# Altium footprint library SamacSys.PcbLib: 53 footprints (part 3 of 4)
Each footprint in its own frame and in the unit in brackets; x right, y up, seen from the top. Pads: shape width x height; smd on the part's side, far side on the other; paste and mask are expansions set on the pad; w line width, h text height; cw(c..) or ccw(c..) is an arc to the next point about the centre after c.
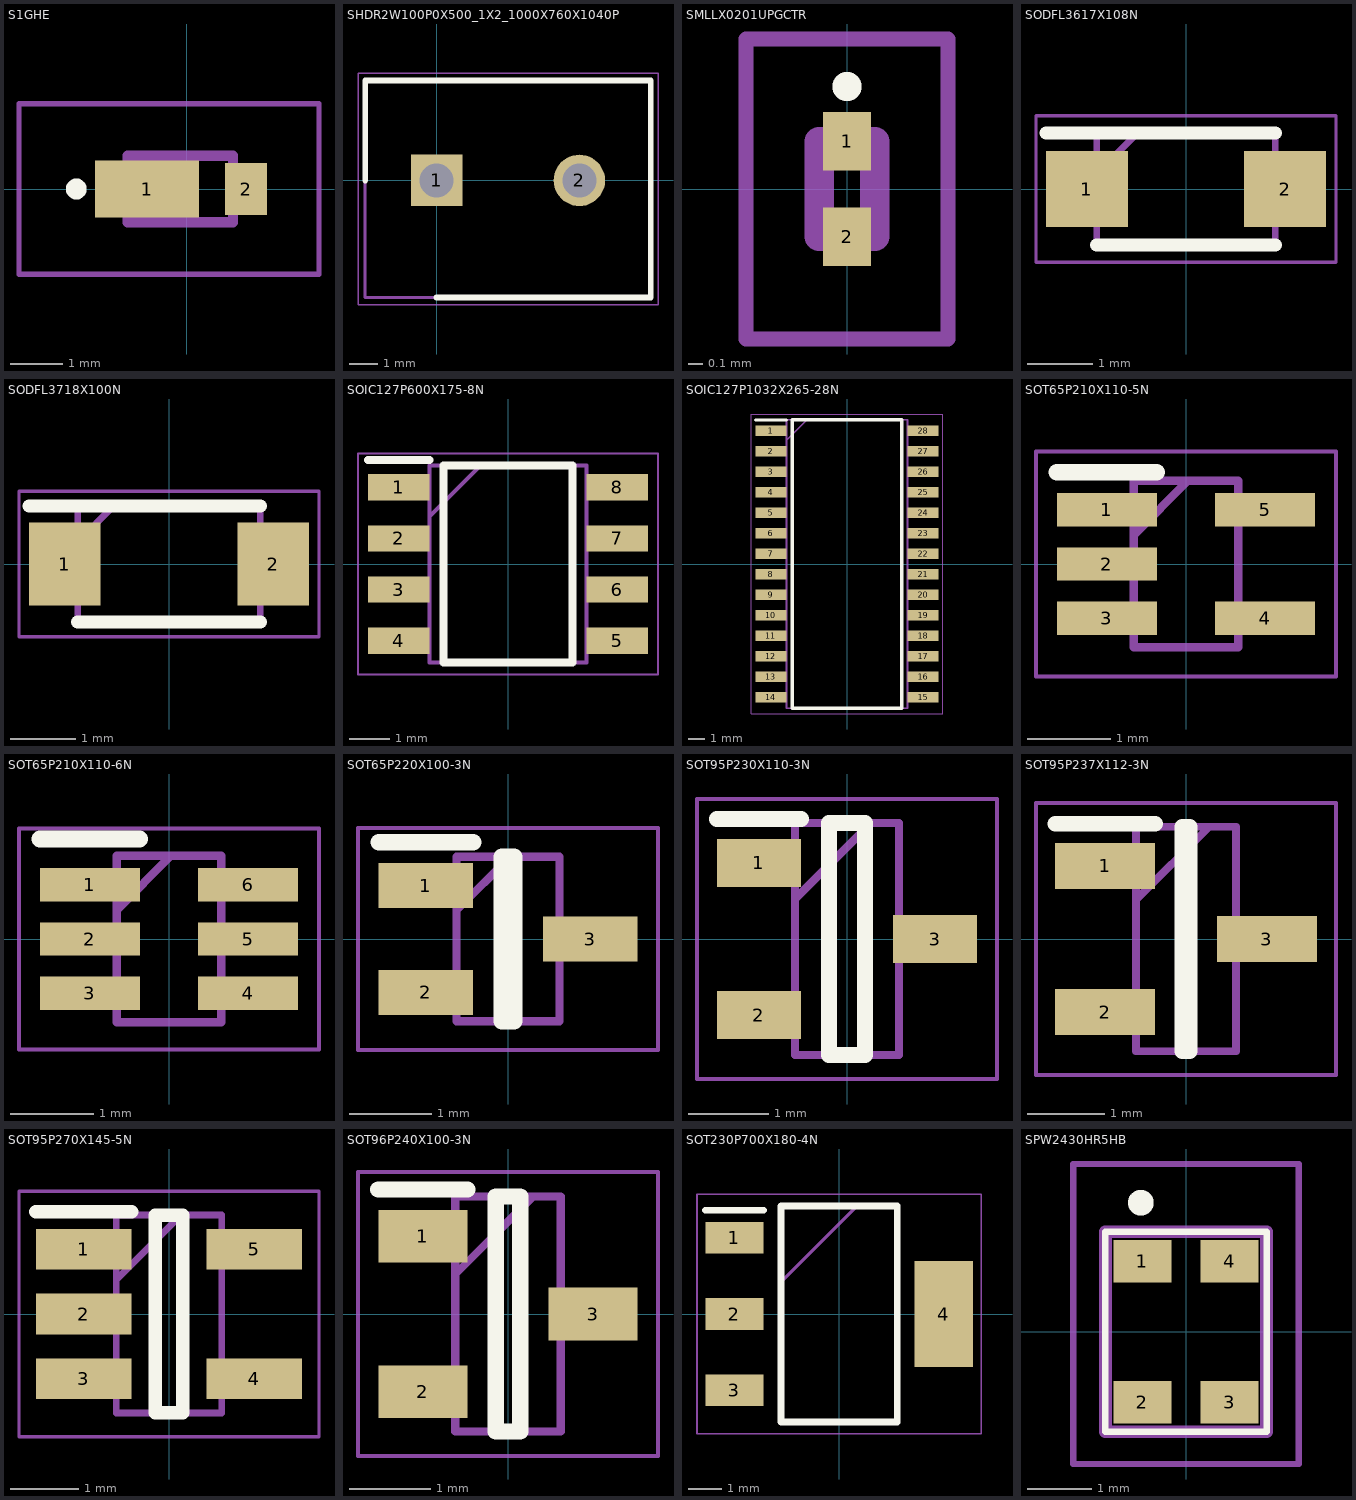
[diagram p2: the footprints below, top view; thin cyan lines are the x and y axes]

## S1GHE [mm]
pads (2):
  rect 2x1.1 smd: 1(-0.763,0)
  rect 0.8x1 smd: 2(1.138,0)
Top Overlay:
  lines w0.2: -2.22,0 cw(c-2.12,0) -2.02,0 cw(c-2.12,0) -2.22,0
Mechanical 13:
  lines w0.2: -1.138,-0.638 -1.138,0.638 0.888,0.638 0.888,-0.638 -1.138,-0.638
Mechanical 15:
  lines w0.1: -3.22,-1.638 -3.22,1.638 2.538,1.638 2.538,-1.638 -3.22,-1.638
3D body "S1GHE.stp": height 0.85, standoff 0, extent -1.653,-0.638 1.458,0.638

## SHDR2W100P0X500_1X2_1000X760X1040P [mm]
pads (2):
  rect 1.8x1.8 hole 1.2: 1(0,0)
  round 1.8 hole 1.2: 2(5,0)
Top Overlay:
  lines w0.2: -2.5,0 -2.5,3.5 7.5,3.5 7.5,-4.1 0,-4.1
Mechanical 13:
  lines w0.1: -2.5,-4.1 -2.5,3.5 7.5,3.5 7.5,-4.1 -2.5,-4.1
Mechanical 15:
  lines w0.05: -2.75,-4.35 -2.75,3.75 7.75,3.75 7.75,-4.35 -2.75,-4.35

## SMLLX0201UPGCTR [mm]
pads (2):
  rect 0.33x0.4 smd: 1(0,0.325) 2(0,-0.325)
Top Overlay:
  lines w0.1: -0.05,0.7 ccw(c0,0.7) 0.05,0.7 ccw(c0,0.7) -0.05,0.7
Mechanical 13:
  lines w0.2: -0.19,-0.325 0.19,-0.325 0.19,0.325 -0.19,0.325 -0.19,-0.325
Mechanical 15:
  lines w0.1: -0.69,-1.025 0.69,-1.025 0.69,1.025 -0.69,1.025 -0.69,-1.025
3D body "SML-LX0201UPGC-TR.stp": height 0.56, standoff 0, extent -0.19,-0.325 0.19,0.325

## SODFL3617X108N [mm]
pads (2):
  rect 1.26x1.17 smd: 1(-1.525,0) 2(1.525,0)
Top Overlay:
  lines w0.2: -2.155,0.862 1.375,0.862 ; -1.375,-0.862 1.375,-0.862
Mechanical 13:
  lines w0.1: -1.375,0.232 -0.745,0.862 ; -1.375,-0.862 1.375,-0.862 1.375,0.862 -1.375,0.862 -1.375,-0.862
Mechanical 15:
  lines w0.05: -2.305,-1.125 2.305,-1.125 2.305,1.125 -2.305,1.125 -2.305,-1.125
3D body "SS24FL.stp": height 1.08, standoff 0, extent -1.8,-0.863 1.8,0.863

## SODFL3718X100N [mm]
pads (2):
  rect 1.1x1.27 smd: 1(-1.6,0) 2(1.6,0)
Top Overlay:
  lines w0.2: -2.15,0.89 1.4,0.89 ; -1.4,-0.89 1.4,-0.89
Mechanical 13:
  lines w0.1: -1.4,0.34 -0.85,0.89 ; -1.4,-0.89 -1.4,0.89 1.4,0.89 1.4,-0.89 -1.4,-0.89
Mechanical 15:
  lines w0.05: -2.3,-1.115 -2.3,1.115 2.3,1.115 2.3,-1.115 -2.3,-1.115
3D body "SBR3U40P1-7.stp": height 1, standoff 0, extent -1.85,-0.89 1.85,0.89

## SOIC127P600X175-8N [mm]
pads (8):
  rect 1.525x0.65 smd: 1(-2.712,1.905) 2(-2.712,0.635) 3(-2.712,-0.635) 4(-2.712,-1.905) 5(2.712,-1.905) 6(2.712,-0.635) 7(2.712,0.635) 8(2.712,1.905)
Top Overlay:
  lines w0.2: -3.475,2.58 -1.95,2.58 ; -1.6,-2.45 -1.6,2.45 1.6,2.45 1.6,-2.45 -1.6,-2.45
Mechanical 13:
  lines w0.1: -1.95,1.18 -0.68,2.45 ; -1.95,-2.45 -1.95,2.45 1.95,2.45 1.95,-2.45 -1.95,-2.45
Mechanical 15:
  lines w0.05: -3.725,-2.75 -3.725,2.75 3.725,2.75 3.725,-2.75 -3.725,-2.75
3D body "NE555DR.stp": height 1.75, standoff 0, extent -3,-2.45 3,2.45

## SOIC127P1032X265-28N [mm]
pads (28):
  rect 1.925x0.65 smd: 1(-4.712,8.255) 2(-4.712,6.985) 3(-4.712,5.715) 4(-4.712,4.445) 5(-4.712,3.175) 6(-4.712,1.905) 7(-4.712,0.635) 8(-4.712,-0.635) 9(-4.712,-1.905) 10(-4.712,-3.175) 11(-4.712,-4.445) 12(-4.712,-5.715) 13(-4.712,-6.985) 14(-4.712,-8.255) 15(4.712,-8.255) 16(4.712,-6.985) 17(4.712,-5.715) 18(4.712,-4.445) 19(4.712,-3.175) 20(4.712,-1.905) 21(4.712,-0.635) 22(4.712,0.635) 23(4.712,1.905) 24(4.712,3.175) 25(4.712,4.445) 26(4.712,5.715) 27(4.712,6.985) 28(4.712,8.255)
Top Overlay:
  lines w0.2: -5.675,8.93 -3.75,8.93 ; -3.4,-8.95 -3.4,8.95 3.4,8.95 3.4,-8.95 -3.4,-8.95
Mechanical 13:
  lines w0.1: -3.75,7.68 -2.48,8.95 ; -3.75,-8.95 -3.75,8.95 3.75,8.95 3.75,-8.95 -3.75,-8.95
Mechanical 15:
  lines w0.05: -5.925,-9.3 -5.925,9.3 5.925,9.3 5.925,-9.3 -5.925,-9.3
3D body "MAX306EWI+T.stp": height 2.65, standoff 0, extent -5.162,-8.95 5.162,8.95

## SOT65P210X110-5N [mm]
pads (5):
  rect 1.2x0.4 smd: 1(-0.95,0.65) 2(-0.95,0) 3(-0.95,-0.65) 4(0.95,-0.65) 5(0.95,0.65)
Top Overlay:
  lines w0.2: -1.55,1.1 -0.35,1.1
Mechanical 13:
  lines w0.1: -0.625,0.35 0.025,1 ; -0.625,-1 -0.625,1 0.625,1 0.625,-1 -0.625,-1
Mechanical 15:
  lines w0.05: -1.8,-1.35 -1.8,1.35 1.8,1.35 1.8,-1.35 -1.8,-1.35
3D body "NC7SZ14P5X.stp": height 1.1, standoff 0, extent -1.05,-1 1.05,1

## SOT65P210X110-6N [mm]
pads (6):
  rect 1.2x0.4 smd: 1(-0.95,0.65) 2(-0.95,0) 3(-0.95,-0.65) 4(0.95,-0.65) 5(0.95,0) 6(0.95,0.65)
Top Overlay:
  lines w0.2: -1.55,1.2 -0.35,1.2
Mechanical 13:
  lines w0.1: -0.625,0.35 0.025,1 ; -0.625,-1 0.625,-1 0.625,1 -0.625,1 -0.625,-1
Mechanical 15:
  lines w0.05: -1.8,-1.325 1.8,-1.325 1.8,1.325 -1.8,1.325 -1.8,-1.325
3D body "SN74LVC1G332DCKRG4.stp": height 1.1, standoff 0, extent -1.05,-1 1.05,1

## SOT65P220X100-3N [mm]
pads (3):
  rect 1.15x0.55 smd: 1(-1,0.65) 2(-1,-0.65) 3(1,0)
Top Overlay:
  lines w0.2: -1.575,1.175 -0.425,1.175 ; -0.075,-1 0.075,-1 0.075,1 -0.075,1 -0.075,-1
Mechanical 13:
  lines w0.1: -0.625,0.35 0.025,1 ; -0.625,-1 0.625,-1 0.625,1 -0.625,1 -0.625,-1
Mechanical 15:
  lines w0.05: -1.825,-1.35 1.825,-1.35 1.825,1.35 -1.825,1.35 -1.825,-1.35
3D body "NTS2101PT1G.stp": height 1, standoff 0, extent -1.1,-1 1.1,1

## SOT95P230X110-3N [mm]
pads (3):
  rect 1.05x0.6 smd: 1(-1.1,0.95) 2(-1.1,-0.95) 3(1.1,0)
Top Overlay:
  lines w0.2: -1.625,1.5 -0.575,1.5 ; -0.225,-1.45 0.225,-1.45 0.225,1.45 -0.225,1.45 -0.225,-1.45
Mechanical 13:
  lines w0.1: -0.65,0.5 0.3,1.45 ; -0.65,-1.45 0.65,-1.45 0.65,1.45 -0.65,1.45 -0.65,-1.45
Mechanical 15:
  lines w0.05: -1.875,-1.75 1.875,-1.75 1.875,1.75 -1.875,1.75 -1.875,-1.75
3D body "BC817,215.stp": height 1.1, standoff 0, extent -1.15,-1.45 1.15,1.45

## SOT95P237X112-3N [mm]
pads (3):
  rect 1.3x0.6 smd: 1(-1.05,0.95) 2(-1.05,-0.95) 3(1.05,0)
Top Overlay:
  lines w0.2: -1.7,1.5 -0.4,1.5 ; -0.05,-1.46 0.05,-1.46 0.05,1.46 -0.05,1.46 -0.05,-1.46
Mechanical 13:
  lines w0.1: -0.65,0.51 0.3,1.46 ; -0.65,-1.46 0.65,-1.46 0.65,1.46 -0.65,1.46 -0.65,-1.46
Mechanical 15:
  lines w0.05: -1.95,-1.77 1.95,-1.77 1.95,1.77 -1.95,1.77 -1.95,-1.77
3D body "SI2393DS-T1-GE3.stp": height 1.12, standoff 0, extent -1.185,-1.46 1.185,1.46

## SOT95P270X145-5N [mm]
pads (5):
  rect 1.4x0.6 smd: 1(-1.25,0.95) 2(-1.25,0) 3(-1.25,-0.95) 4(1.25,-0.95) 5(1.25,0.95)
Top Overlay:
  lines w0.2: -1.95,1.5 -0.55,1.5 ; -0.2,-1.45 -0.2,1.45 0.2,1.45 0.2,-1.45 -0.2,-1.45
Mechanical 13:
  lines w0.1: -0.775,0.5 0.175,1.45 ; -0.775,-1.45 -0.775,1.45 0.775,1.45 0.775,-1.45 -0.775,-1.45
Mechanical 15:
  lines w0.05: -2.2,-1.8 -2.2,1.8 2.2,1.8 2.2,-1.8 -2.2,-1.8
3D body "MCP73831T-2ACI_OT.stp": height 1.45, standoff 0, extent -1.35,-1.45 1.35,1.45

## SOT96P240X100-3N [mm]
pads (3):
  rect 1.1x0.65 smd: 1(-1.05,0.96) 2(-1.05,-0.96) 3(1.05,0)
Top Overlay:
  lines w0.2: -1.6,1.535 -0.5,1.535 ; -0.15,-1.45 -0.15,1.45 0.15,1.45 0.15,-1.45 -0.15,-1.45
Mechanical 13:
  lines w0.1: -0.65,0.49 0.31,1.45 ; -0.65,-1.45 -0.65,1.45 0.65,1.45 0.65,-1.45 -0.65,-1.45
Mechanical 15:
  lines w0.05: -1.85,-1.75 -1.85,1.75 1.85,1.75 1.85,-1.75 -1.85,-1.75
3D body "DMP1045UQ-7.stp": height 1, standoff 0, extent -1.2,-1.45 1.2,1.45

## SOT230P700X180-4N [mm]
pads (4):
  rect 1.75x0.95 smd: 1(-3.15,2.3) 2(-3.15,0) 3(-3.15,-2.3)
  rect 1.75x3.2 smd: 4(3.15,0)
Top Overlay:
  lines w0.2: -4.025,3.125 -2.275,3.125 ; -1.75,-3.25 1.75,-3.25 1.75,3.25 -1.75,3.25 -1.75,-3.25
Mechanical 13:
  lines w0.1: -1.75,0.95 0.55,3.25 ; -1.75,-3.25 1.75,-3.25 1.75,3.25 -1.75,3.25 -1.75,-3.25
Mechanical 15:
  lines w0.05: -4.275,-3.6 4.275,-3.6 4.275,3.6 -4.275,3.6 -4.275,-3.6
3D body "LM7805MPX_NOPB.stp": height 1.8, standoff 0, extent -3.5,-3.25 3.5,3.25

## SPW2430HR5HB [mm]
pads (4):
  rect 0.9x0.66 smd: 1(-0.675,1.095) 2(-0.675,-1.095) 3(0.675,-1.095) 4(0.675,1.095)
Top Overlay:
  lines w0.1: -1.25,-1.55 1.25,-1.55 1.25,1.55 -1.25,1.55 -1.25,-1.55
  lines w0.2: -0.8,2 cw(c-0.7,2) -0.6,2 cw(c-0.7,2) -0.8,2
Mechanical 13:
  lines w0.2: -1.25,-1.55 1.25,-1.55 1.25,1.55 -1.25,1.55 -1.25,-1.55
Mechanical 15:
  lines w0.1: -1.75,-2.05 1.75,-2.05 1.75,2.6 -1.75,2.6 -1.75,-2.05
3D body "SPW2430HR5H-B.stp": height 1.1, standoff 0, extent -1.25,-1.55 1.25,1.55